# EAGLE library part LT1763CS8-5 (library custom-devices)
5.0V Linear Voltage Regulator
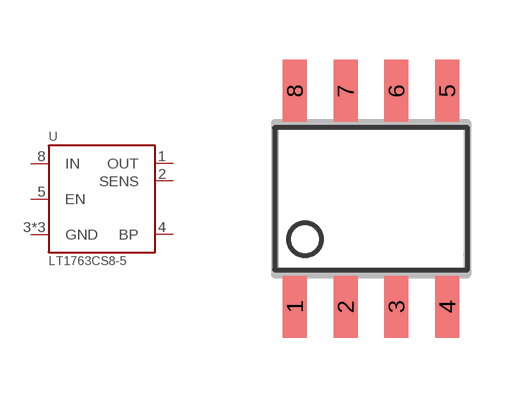
[diagram p21: symbol with the pads of SOIC08; footprint SOIC08]

Designator prefix U

## LT1763CS8-5_SOIC8 (DIGI-KEY: LT1763CS8-5#TRPBFCT-ND)  [SOIC08]
1  OUT
2  SENS
3  GND
4  BP
5  EN
6  GND
7  GND
8  IN

## Footprint SOIC08 (pad centres in mm)
Small Outline IC
smd 0.6 x 1.55: 1 -1.905,-2.7; 2 -0.635,-2.7; 3 0.635,-2.7; 4 1.905,-2.7; 5 1.905,2.7; 6 0.635,2.7; 7 -0.635,2.7; 8 -1.905,2.7